# Altium schematic symbol library 素材库.SCHLIB: 15 symbols
Pins are listed as number, name and electrical type; pins without a type are passive.

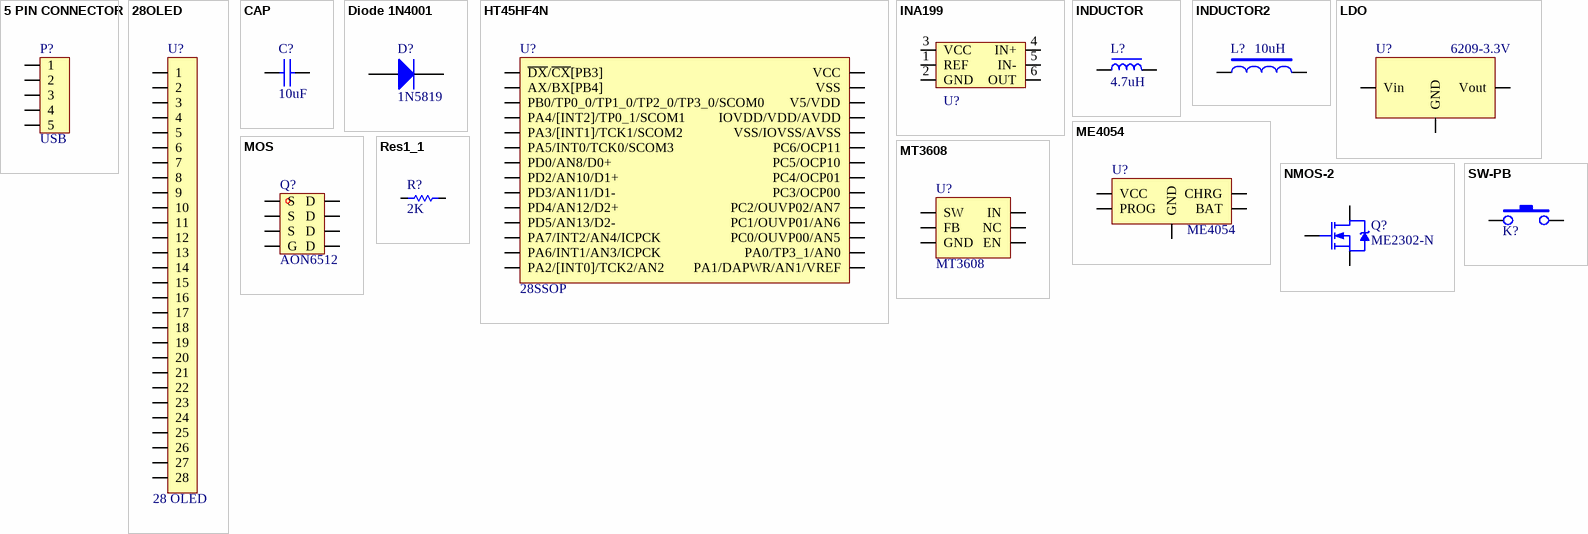
[diagram p0: symbols 5 PIN CONNECTOR to SW-PB]

## 5 PIN CONNECTOR
designator P?, comment USB
footprint M-USB-V
pins: 1, 2, 3, 4, 5

## 28OLED
designator U?, comment 28 OLED
footprint 28OLED
pins: 1, 2, 3, 4, 5, 6, 7, 8, 9, 10, 11, 12, 13, 14, 15, 16, 17, 18, 19, 20, 21, 22, 23, 24, 25, 26, 27, 28

## CAP
designator C?, comment 10uF
Capacitor
footprint 6-0805_L (Chip Resistor, Body 2.0x1.2mm, IPC High Density)
pins: 1, 2

## Diode 1N4001
designator D?, comment 1N5819
1 Amp General Purpose Rectifier; Published: 8-Jun-2000; LatestRevisionDate: 17-Jul-2002; LatestRevisionNote: Re-released for DXP Platform.; DatasheetVersion: 1998; PackageVersion: Aug-1999; PackageReference: DO-41; Publisher: Altium Limited; PackageDescription: Diode, Axial; Body 5.2 x 2.7 mm (LxDia. max), Lead Dia. 0.86 mm (max); Code_JEDEC: DO-204-AL; ComponentLink1Description: Manufacturer Link; ComponentLink1URL: http://www.fairchildsemi.com/; ComponentLink2Description: Datasheet; ComponentLink2URL: http://www.fairchildsemi.com/ds/1N%2F1N4001.pdf
footprint DO-41 (Diode, Axial; Body 5.2 x 2.7 mm (LxDia. max), Lead Dia. 0.86 mm (max))
simulation model 1N4001 (DIODE)
signal-integrity model 1N4001
pins: 1 A, 2 K

## HT45HF4N
designator U?, comment 28SSOP
footprint 28SSOP
pins: 1 ~{DX}/~{CX}[PB3], 2 AX/BX[PB4], 3 PB0/TP0_0/TP1_0/TP2_0/TP3_0/SCOM0, 4 PA4/[INT2]/TP0_1/SCOM1, 5 PA3/[INT1]/TCK1/SCOM2, 6 PA5/INT0/TCK0/SCOM3, 7 PD0/AN8/D0+, 8 PD2/AN10/D1+, 9 PD3/AN11/D1-, 10 PD4/AN12/D2+, 11 PD5/AN13/D2-, 12 PA7/INT2/AN4/ICPCK, 13 PA6/INT1/AN3/ICPCK, 14 PA2/[INT0]/TCK2/AN2, 15 PA1/DAPWR/AN1/VREF, 16 PA0/TP3_1/AN0, 17 PC0/OUVP00/AN5, 18 PC1/OUVP01/AN6, 19 PC2/OUVP02/AN7, 20 PC3/OCP00, 21 PC4/OCP01, 22 PC5/OCP10, 23 PC6/OCP11, 24 VSS/IOVSS/AVSS, 25 IOVDD/VDD/AVDD, 26 V5/VDD, 27 VSS, 28 VCC

## INA199
designator U?  (value not drawn)
footprint SC70-6
pins: 1 REF, 2 GND, 3 VCC, 4 IN+, 5 IN-, 6 OUT

## INDUCTOR
designator L?, comment 4.7uH
footprint IND12_12 (Footprint not found)
pins: 1, 2

## INDUCTOR2
designator L?, comment 10uH
footprint CD32
pins: 1, 2

## LDO
designator U?, comment 6209-3.3V
footprint SOT-23
pins: 1 GND, 2 Vout, 3 Vin

## ME4054
designator U?
footprint SOT23-5 (Footprint not found)
pins: 1 CHRG, 2 GND, 3 BAT, 4 VCC, 5 PROG

## MOS
designator Q?, comment AON6512
Singe 8pin; WSD3030DS: WSD3030DS; SI4477: SI4477; NCE3035Q: NCE3035Q
footprint SON5_6mm (Footprint not found)
pins: 1 S, 2 S, 3 S, 4 G, 5 D, 6 D, 7 D, 8 D

## MT3608
designator U?
footprint SOT-23-6
pins: 1 SW, 2 GND, 3 FB, 4 EN, 5 IN, 6 NC

## NMOS-2
designator Q?, comment ME2302-N
N-Channel Power MOSFET; Note: Pin 2 is electrically connected to pin 4.; Published: 8-Jun-2000; LatestRevisionDate: 17-Jul-2002; LatestRevisionNote: Re-released for DXP Platform.; DatasheetVersion: PD-9.814; PackageVersion: Feb-1997; PackageReference: TO-220AB; Publisher: Altium Limited; PackageDescription: TO, Thru-Hole, Vertical, Heatsink Mounted; 3 In-Line Leads; Pitch 2.54 mm; ComponentLink1Description: Manufacturer Link; ComponentLink1URL: http://www.irf.com/
footprint SOT-23
pins: 1 G, 2 S, 3 D

## Res1_1
designator R?, comment 2K
Resistor; Published: 8-Jun-2000; LatestRevisionDate: 17-Jul-2002; LatestRevisionNote: Re-released for DXP Platform.; PackageReference: AXIAL-0.3; Publisher: Altium Limited; PackageDescription: Axial Device, Thru-Hole; 2 Leads; 0.3 in Pin Spacing
footprint 6-0805_L
pins: 1, 2

## SW-PB
designator K?  (value not drawn)
footprint 4KEY_SMT
pins: 1, 2